# Altium schematic symbol library 632723130112.SchLib: 1 symbol
Pins are listed as number, name and electrical type; pins without a type are passive.

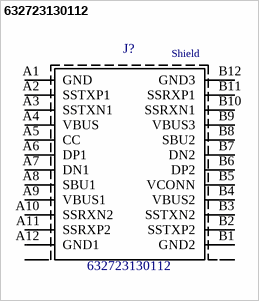
[diagram p0: symbol 632723130112]

## 632723130112
designator J?
Check_prices: https://www.snapeda.com/parts/632723130112/Wurth+Elektronik/view-part/?ref=eda; SnapEDA_Link: https://www.snapeda.com/parts/632723130112/Wurth+Elektronik/view-part/?ref=snap; Value: *
footprint *632723130112_632723130112(Primary)
pins: A1 GND, A2 SSTXP1, A3 SSTXN1, A4 VBUS, A5 CC, A6 DP1, A7 DN1, A8 SBU1, A9 VBUS1, A10 SSRXN2, A11 SSRXP2, A12 GND1, B1 GND2, B2 SSTXP2, B3 SSTXN2, B4 VBUS2, B5 VCONN, B6 DP2, B7 DN2, B8 SBU2, B9 VBUS3, B10 SSRXN1, B11 SSRXP1, B12 GND3, S1 SHIELD, S2 SHIELD, S3 SHIELD1, S4 SHIELD1
text: Shield